# Altium footprint library XT系列.PcbLib: 5 footprints
Each footprint in its own frame and in the unit in brackets; x right, y up, seen from the top. Pads: shape width x height; smd on the part's side, far side on the other; paste and mask are expansions set on the pad; w line width, h text height; cw(c..) or ccw(c..) is an arc to the next point about the centre after c.
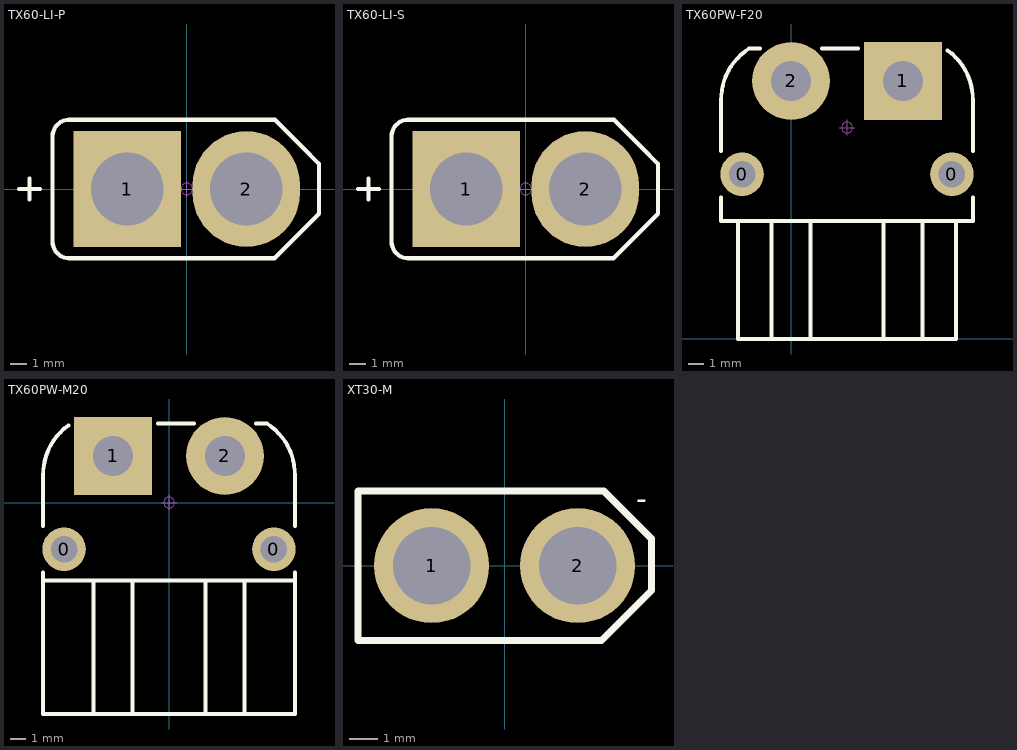
[diagram p0: the footprints below, top view; thin cyan lines are the x and y axes]

## TX60-LI-P [mm] "长：16mm，宽：8.2mm，高：16mm     淘宝ID:黄晶宝石"
pads (2):
  rect 6.5x7 hole 4.4: 1(-3.6,0)
  oval 6.5x7 hole 4.4: 2(3.6,0)
Top Overlay:
  lines w0.254: -10.16,0 -8.89,0 ; -9.525,-0.635 -9.525,0.635 ; -8.128,-3.191 ccw(c-7.128,-3.191) -7.128,-4.191 5.309,-4.191 8,-1.5 8,1.525 6.985,2.54 5.334,4.191 -7.128,4.191 ccw(c-7.128,3.191) -8.128,3.191 -8.128,-3.191
Mechanical 15:
  circle w0.05: c0,0 r0.35
  lines w0.05: -0.5,0 0.5,0 ; 0,-0.5 0,0.5
3D body "TX60-LI-P.STEP": height 15.85, standoff -2.25, extent -8,-4.1 8,4.1

## TX60-LI-S [mm] "长：16mm，宽：8.2mm，高：16mm"
pads (2):
  rect 6.5x7 hole 4.4: 1(-3.6,0)
  oval 6.5x7 hole 4.4: 2(3.6,0)
Top Overlay:
  lines w0.254: -10.16,0 -8.89,0 ; -9.525,-0.635 -9.525,0.635 ; -8.128,-3.191 ccw(c-7.128,-3.191) -7.128,-4.191 5.309,-4.191 8,-1.5 8,1.525 6.985,2.54 5.334,4.191 -7.128,4.191 ccw(c-7.128,3.191) -8.128,3.191 -8.128,-3.191
Mechanical 15:
  circle w0.05: c0,0 r0.35
  lines w0.05: -0.5,0 0.5,0 ; 0,-0.5 0,0.5
3D body "TX60-LI-S.STEP": height 16.05, standoff -2.25, extent -8,-4.1 8,4.1

## TX60PW-F20 [mm] "长：18.8mm， 宽：16mm，高：8.6mm"
pads (4):
  round 2.8 hole 1.7: 0(-3.15,10.6) 0(10.35,10.6)
  rect 5x5 hole 2.6: 1(7.2,16.6)
  round 5 hole 2.6: 2(0,16.6)
Top Overlay:
  lines w0.254: -4.5,9.1 -4.5,7.6 11.7,7.6 11.7,9.1 ; -4.5,12.1 -4.5,15.338 cw(c-0.6,15.4) -2.694,18.691 ; -3.4,7.6 -3.4,0 10.6,0 10.6,7.6 ; -2.694,18.7 -2,18.7 ; -1.25,0 -1.25,7.6 ; 1.25,0 1.25,7.6 ; 2,18.7 4.3,18.7 ; 5.95,0 5.95,7.6 ; 8.45,0 8.45,7.6 ; 10.076,18.567 cw(c7.8,15.4) 11.7,15.338 ; 11.7,12.1 11.7,15.392 ; 3.6,7.6 ccw(c3.6,7.6) 3.6,7.6
Mechanical 15:
  circle w0.05: c3.6,13.6 r0.35
  lines w0.05: 3.1,13.6 4.1,13.6 ; 3.6,13.1 3.6,14.1
3D body "TX60PW-F20.STEP": height 8.65, standoff -2.35, extent -4.4,0 11.6,18.62

## TX60PW-M20 [mm] "长：18.8mm， 宽：16mm，高：8.6mm     淘宝ID:黄晶宝石"
pads (4):
  round 2.8 hole 1.7: 0(-6.75,-3) 0(6.75,-3)
  rect 5x5 hole 2.6: 1(-3.6,3)
  round 5 hole 2.6: 2(3.6,3)
Top Overlay:
  lines w0.254: -8.1,-4.5 -8.1,-5 ; -8.1,-1.5 -8.1,1.792 ; -8.1,1.738 cw(c-4.2,1.8) -6.476,4.967 ; -4.85,-13.6 -4.85,-5 ; -2.35,-13.6 -2.35,-5 ; -0.7,5.1 1.6,5.1 ; 2.35,-13.6 2.35,-5 ; 4.85,-13.6 4.85,-5 ; 5.6,5.1 6.294,5.1 ; 6.294,5.091 cw(c4.2,1.8) 8.1,1.738 8.1,-1.5 ; 8.1,-4.5 8.1,-5 ; -8.1,-5 -8.1,-13.6 8.1,-13.6 8.1,-5 ; -8.1,-5 8.1,-5
Mechanical 15:
  circle w0.05: c0,0 r0.35
  lines w0.05: -0.5,0 0.5,0 ; 0,-0.5 0,0.5
3D body "TX60PW-M20.STEP": height 8.65, standoff -2.35, extent -8,-13.6 8,5.02

## XT30-M [mm]
height 24
pads (2):
  round 4 hole 2.7: 1(-2.54,0) 2(2.54,0)
Top Overlay:
  lines w0.254: 3.454,2.6 -5.1,2.6 -5.1,-2.6 3.369,-2.6 5.105,-0.864 5.105,0.94 3.511,2.535
  text "-" at 4.572,1.956 h0.76
Bottom Overlay:
  text "+" at -4.88,-2.775 h0.51
  text "-" at 5.08,1.956 h0.76
3D body "XT30U-M.STEP": height 10.66, standoff -3.04, extent -5.176,-2.8 5.024,2.8